# Altium footprint library dmpro16lib.PcbLib: 10 footprints
Each footprint in its own frame and in the unit in brackets; x right, y up, seen from the top. Pads: shape width x height; smd on the part's side, far side on the other; paste and mask are expansions set on the pad; w line width, h text height; cw(c..) or ccw(c..) is an arc to the next point about the centre after c.
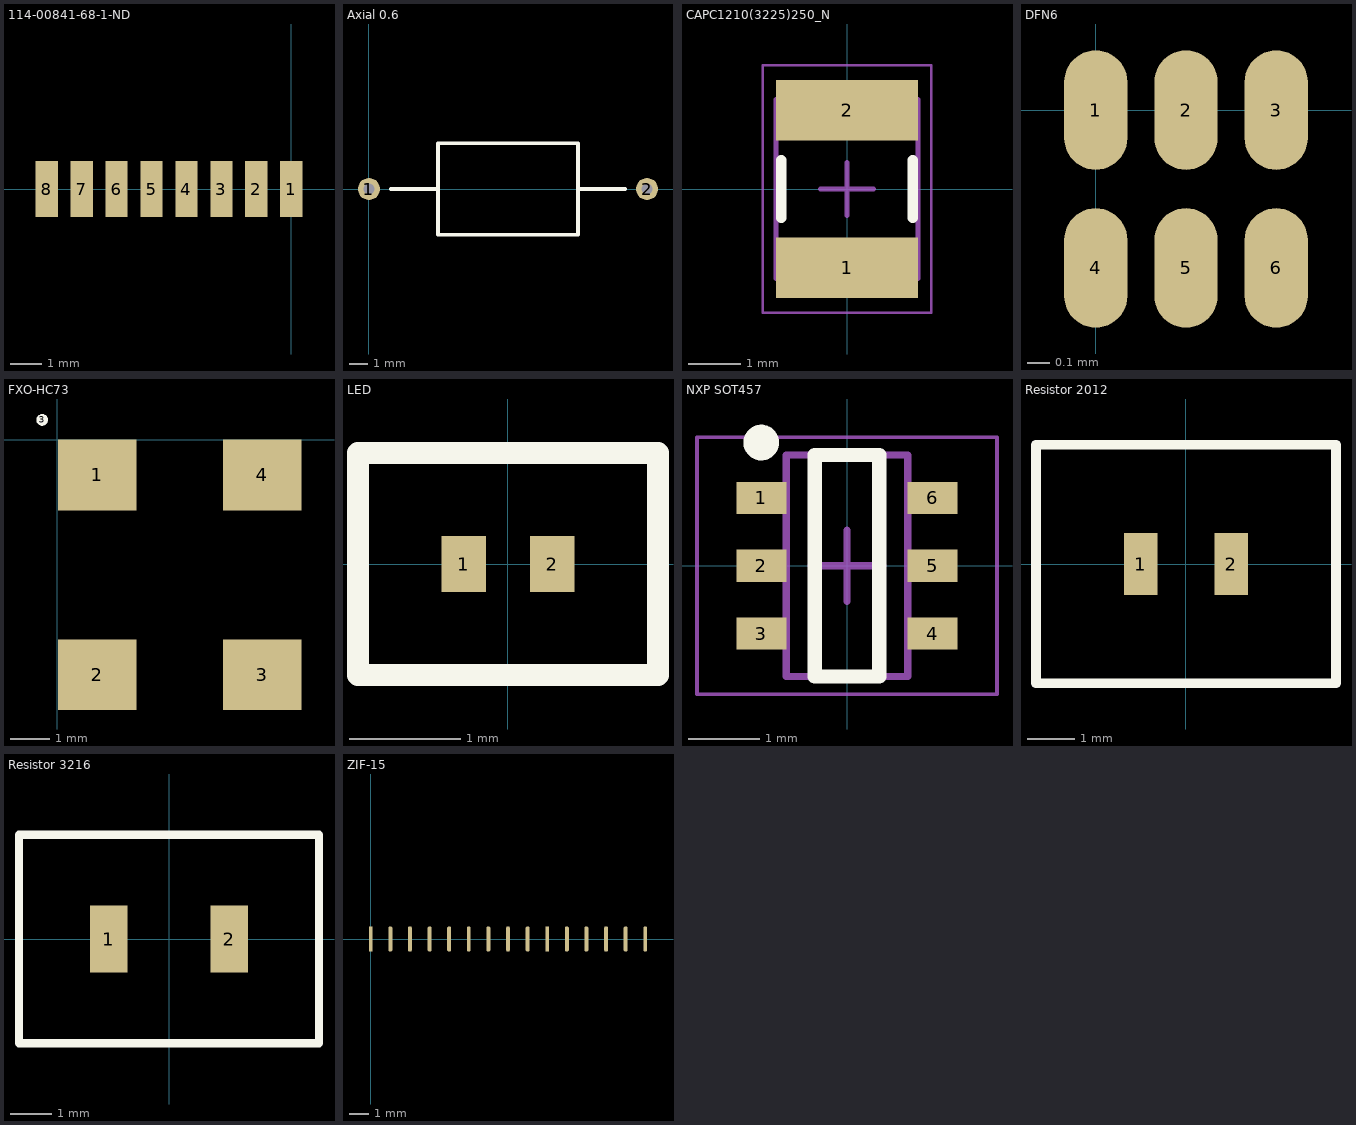
[diagram p0: the footprints below, top view; thin cyan lines are the x and y axes]

## 114-00841-68-1-ND [mm]
height 2
pads (8):
  rect 0.7x1.75 smd: 1(0,0) 2(-1.1,0) 3(-2.2,0) 4(-3.3,0) 5(-4.4,0) 6(-5.5,0) 7(-6.6,0) 8(-7.7,0)
3D body "1140084168-revB.stp": height 1.56, standoff -0.04, extent -9.21,-0.25 2.81,11.25

## Axial 0.6 [mm]
pads (2):
  round 1.2 hole 0.6: 1(0,0) 2(15.2,0)
Top Overlay:
  lines w0.2: 1.2,0 3.775,0 ; 11.425,0 14,0 ; 3.775,0 3.775,-2.5 11.425,-2.5 11.425,2.5 3.775,2.5 3.775,0

## CAPC1210(3225)250_N [mm] "Chip Capacitor, Body 3.2x2.5mm, Height 2.5mm, IPC Medium Density"
height 2.5
pads (2):
  rect 2.7x1.15 smd: 1(0,-1.5) 2(0,1.5)
Top Overlay:
  lines w0.2: -1.25,-0.55 -1.25,0.55 ; 1.25,-0.55 1.25,0.55
Mechanical 13:
  lines w0.1: -1.35,-1.7 -1.35,1.7 1.35,1.7 1.35,-1.7 -1.35,-1.7
Mechanical 15:
  lines w0.05: -1.6,-2.35 -1.6,2.35 1.6,2.35 1.6,-2.35 -1.6,-2.35
  lines w0.1: -0.5,0 0.5,0 ; 0,-0.5 0,0.5
3D body: height 2.5, standoff 0, extent -1.35,1.2 1.35,1.7
3D body: height 2.5, standoff 0, extent -1.35,-1.7 1.35,-1.2
3D body: height 2.5, standoff 0, extent -1.35,-1.2 1.35,1.2

## DFN6 [mm]
pads (6):
  oval 0.28x0.53 smd: 1(0,0) 2(0.4,0) 3(0.8,0) 4(0,-0.7) 5(0.4,-0.7) 6(0.8,-0.7)

## FXO-HC73 [mm] "MEMS oscillator 7x5 mm industry standard package"
pads (5):
  rect 2x1.8 smd: 1(1.016,-0.889) 2(1.016,-5.969) 3(5.216,-5.969) 4(5.216,-0.889)
  round 0.3 on Top Overlay: 3(-0.381,0.508)
3D body "FXO-HC73.step": height 1.4, standoff -0.01, extent 0.495,-7.179 5.715,0.321

## LED [mm]
height 0.5
pads (2):
  rect 0.4x0.5 smd: 1(-0.4,0) 2(0.4,0)
Top Overlay:
  lines w0.2: -1.35,-1 -1.35,0 -1.35,1 1.35,1 1.35,-1 -1.35,-1

## NXP SOT457 [mm] "6 pin SOT457 smd package, NXP"
height 1.1
pads (6):
  rect 0.7x0.45 smd: 1(-1.2,0.95) 2(-1.2,0) 3(-1.2,-0.95) 4(1.2,-0.95) 5(1.2,0) 6(1.2,0.95)
Top Overlay:
  circle w0.25: c-1.2,1.725 r0.125
  lines w0.2: -0.45,-1.55 0.45,-1.55 0.45,1.55 -0.45,1.55 -0.45,-1.55
Mechanical 13:
  lines w0.1: -0.85,-1.55 -0.85,1.55 0.85,1.55 0.85,-1.55 -0.85,-1.55
Mechanical 15:
  lines w0.05: -2.1,-1.8 -2.1,1.8 2.1,1.8 2.1,-1.8 -2.1,-1.8
  lines w0.1: -0.5,0 0.5,0 ; 0,-0.5 0,0.5
3D body "User Library-SOT457.STEP": height 1.01, standoff 0.01, extent -1.403,-1.5 1.397,1.5

## Resistor 2012 [mm]
pads (2):
  rect 0.7x1.3 smd: 1(-0.95,0) 2(0.95,0)
Top Overlay:
  lines w0.2: -3.15,-2.5 3.15,-2.5 3.15,2.5 -3.15,2.5 -3.15,0 -3.15,-2.5

## Resistor 3216 [mm]
pads (2):
  rect 0.9x1.6 smd: 1(-1.45,0) 2(1.45,0)
Top Overlay:
  lines w0.2: -3.6,-2.5 -3.6,0 -3.6,2.5 3.6,2.5 3.6,-2.5 -3.6,-2.5

## ZIF-15 [mm] "Camera connector"
height 10
pads (15):
  rect 0.2x1.3 smd: 1(0,0) 10(9,0)
  oval 0.2x1.3 smd: 2(1,0) 3(2,0) 4(3,0) 5(4,0) 6(5,0) 7(6,0) 8(7,0) 9(8,0) 11(10,0) 12(11,0) 13(12,0) 14(13,0) 15(14,0)
3D body "STEP-686115148922-rev1.stp": height 2.2, standoff -0.05, extent -2.8,-6.5 16.8,0